# EAGLE library part DRV882 (library ds_ic_peripherals)
H-Bridge Motor Controller IC
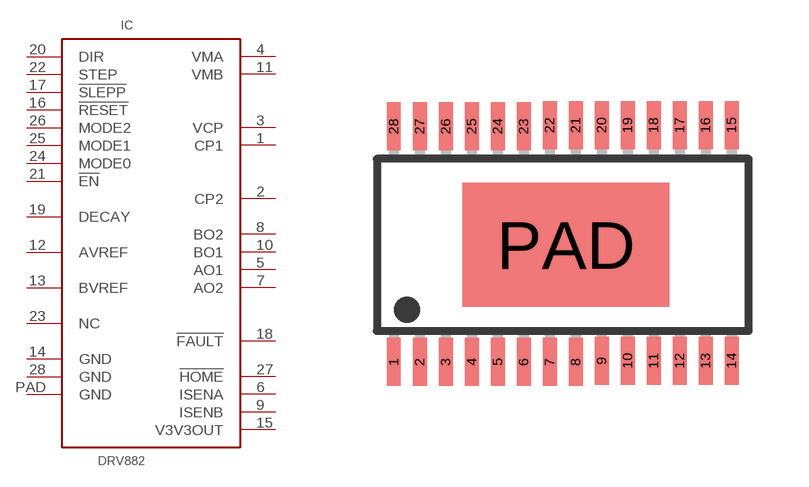
[diagram p77: symbol with the pads of TSSOP28-1; footprint TSSOP28-1]

Designator prefix IC

## DRV8824  [TSSOP28-1]
1  CP1
2  CP2
3  VCP
4  VMA
5  AO1
6  ISENA
7  AO2
8  BO2
9  ISENB
10  BO1
11  VMB
12  AVREF
13  BVREF
14  GND
15  V3V3OUT
16  !RESET
17  !SLEPP
18  !FAULT
19  DECAY
20  DIR
21  !EN
22  STEP
23  NC
24  MODE0
25  MODE1
26  MODE2
27  !HOME
28  GND
PAD  GND

## DRV8825  [TSSOP28-1]
Pads as for TSSOP28-1

## Footprint TSSOP28-1 (pad centres in mm)
smd 0.35 x 1.2: 1 -4.307,-2.925; 2 -3.657,-2.925; 3 -3.007,-2.925; 4 -2.357,-2.925; 5 -1.707,-2.925; 6 -1.057,-2.925; 7 -0.407,-2.925; 8 0.243,-2.925; 9 0.893,-2.895; 10 1.543,-2.895; 11 2.193,-2.895; 12 2.843,-2.895; 13 3.493,-2.895; 14 4.143,-2.895; 15 4.143,2.995; 16 3.493,2.995; 17 2.843,2.995; 18 2.193,2.995; 19 1.543,2.995; 20 0.893,2.995; 21 0.243,2.995; 22 -0.407,2.995; 23 -1.057,2.965; 24 -1.707,2.965; 25 -2.357,2.965; 26 -3.007,2.965; 27 -3.657,2.965; 28 -4.307,2.965
smd 5.18 x 3.1: PAD 0,0